# Altium footprint library CMod5_1.PcbLib: 117 footprints (part 8 of 8)
Each footprint in its own frame and in the unit in brackets; x right, y up, seen from the top. Pads: shape width x height; smd on the part's side, far side on the other; paste and mask are expansions set on the pad; w line width, h text height; cw(c..) or ccw(c..) is an arc to the next point about the centre after c.
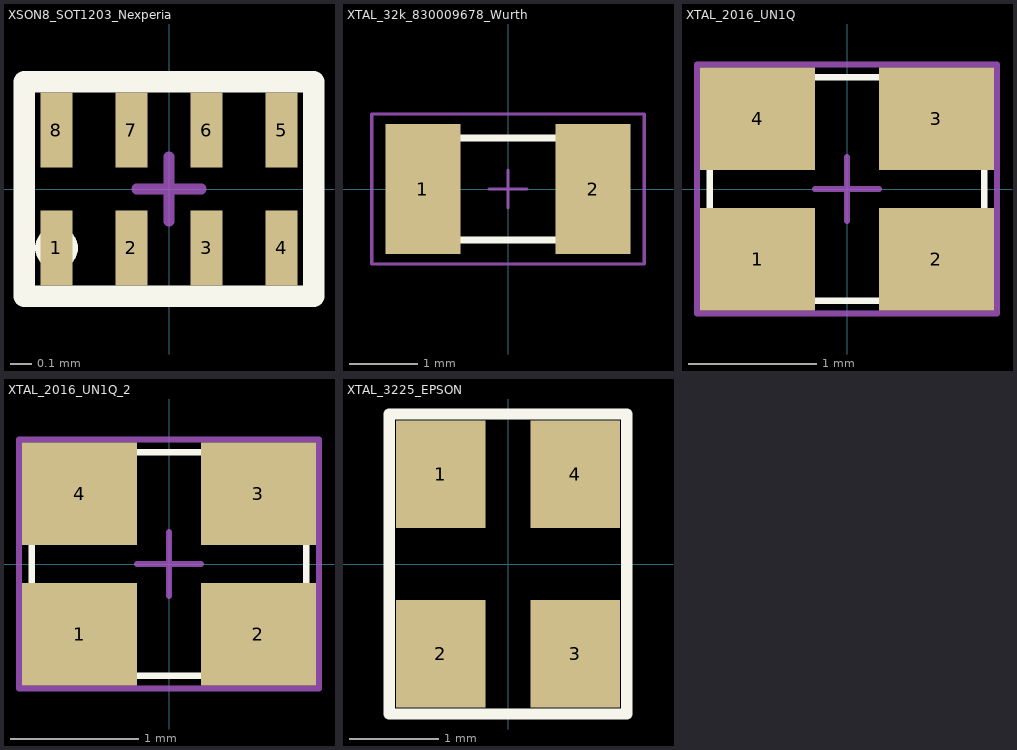
[diagram p7: the footprints below, top view; thin cyan lines are the x and y axes]

## XSON8_SOT1203_Nexperia [mm]
height 0.35
pads (8):
  rect 0.15x0.35 smd paste+0 mask+0.05: 1(-0.525,-0.275) 2(-0.175,-0.275) 3(0.175,-0.275) 4(0.525,-0.275) 5(0.525,0.275) 6(0.175,0.275) 7(-0.175,0.275) 8(-0.525,0.275)
Top Overlay:
  lines w0.1: -0.675,-0.5 0.675,-0.5 0.675,0.5 -0.675,0.5 -0.675,-0.5 ; -0.525,-0.325 ccw(c-0.525,-0.275) -0.525,-0.225 ccw(c-0.525,-0.275) -0.525,-0.325
Top Courtyard:
  lines w0.05: -0.15,0 0.15,0 ; 0,-0.15 0,0.15 ; -0.675,-0.5 0.675,-0.5 0.675,0.5 -0.675,0.5 -0.675,-0.5
3D body: height 0.35, standoff 0.3, extent -0.625,-0.375 -0.425,-0.175
3D body: height 0.35, standoff 0, extent -0.675,-0.5 0.675,0.5

## XTAL_32k_830009678_Wurth [mm]
height 0.9
pads (2):
  rect 1.1x1.9 smd paste+0 mask+0.05: 1(-1.25,0) 2(1.25,0)
Top Overlay:
  lines w0.1: -1.6,-0.75 1.6,-0.75 1.6,0.75 -1.6,0.75 -1.6,-0.75
Top Courtyard:
  lines w0.05: -0.275,0 0.275,0 ; 0,-0.275 0,0.275 ; -2,-1.1 2,-1.1 2,1.1 -2,1.1 -2,-1.1
3D body "Download_STP_830009678 (rev1).stp": height 0.75, standoff 0, extent -1.6,-0.75 1.6,0.75

## XTAL_2016_UN1Q [mm] "Murata XTAL 2.0 x 1.6mm"
height 0.85
pads (4):
  rect 0.9x0.8 smd paste+0 mask+0.05: 1(-0.7,-0.55) 2(0.7,-0.55) 3(0.7,0.55) 4(-0.7,0.55)
Top Overlay:
  circle w0.2: c-0.725,-0.525 r0.05
  lines w0.05: -1.075,-0.875 1.075,-0.875 1.075,0.875 -1.075,0.875 -1.075,-0.875
Top Courtyard:
  lines w0.05: -0.25,0 0.25,0 ; 0,-0.25 0,0.25 ; -1.175,-0.975 1.175,-0.975 1.175,0.975 -1.175,0.975 -1.175,-0.975
Top Designator:
3D body: height 0.8, standoff 0, extent -1.05,-0.85 1.05,0.85
3D body: height 0.81, standoff 0.7, extent -0.875,-0.675 -0.575,-0.375

## XTAL_2016_UN1Q_2 [mm]
pads (4):
  rect 0.9x0.8 smd paste+0 mask+0.05: 1(-0.7,-0.55) 2(0.7,-0.55) 3(0.7,0.55) 4(-0.7,0.55)
Top Overlay:
  circle w0.2: c-0.725,-0.525 r0.05
  lines w0.05: -1.075,-0.875 1.075,-0.875 1.075,0.875 -1.075,0.875 -1.075,-0.875
Top Courtyard:
  lines w0.05: -0.25,0 0.25,0 ; 0,-0.25 0,0.25 ; -1.175,-0.975 1.175,-0.975 1.175,0.975 -1.175,0.975 -1.175,-0.975
Top Designator:
3D body: height 0.8, standoff 0, extent -1.05,-0.85 1.05,0.85
3D body: height 0.81, standoff 0.7, extent -0.875,-0.675 -0.575,-0.375

## XTAL_3225_EPSON [mm] "Epson TSX-3225 3.2mm x 2.5mm"
height 0.6
pads (4):
  rect 1x1.2 smd paste-0.1 mask+0.05: 1(-0.75,1) 2(-0.75,-1) 3(0.75,-1) 4(0.75,1)
Top Overlay:
  circle w0.2: c-0.8,1.1 r0.1
  lines w0.127: -1.325,-1.675 -1.325,1.675 1.325,1.675 1.325,-1.675 -1.325,-1.675
Top Courtyard:
  lines w0.05: -1.325,-1.675 -1.325,1.675 1.325,1.675 1.325,-1.675 -1.325,-1.675
3D body "TSX-3225 24.0000MF15X-AC3.STEP": height 0.6, standoff 0, extent -1.25,-1.6 1.25,1.6